# Altium integrated library ECAP SMD.IntLib: 1 symbol
Pins are listed as number, name and electrical type; pins without a type are passive.

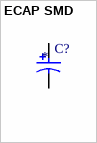
[diagram p0: symbol ECAP SMD]

## ECAP SMD
designator C?
Capacitance: *; Voltage: *
footprint ECAP-8X11_V (Aluminum Electrolytic Capacitor, Diameter 8mm, Height 10.8mm, Pitch 6.5mm)
pins: 1, 2